# EAGLE library part MC899 (library dec-con)
RTL Dual Buffer
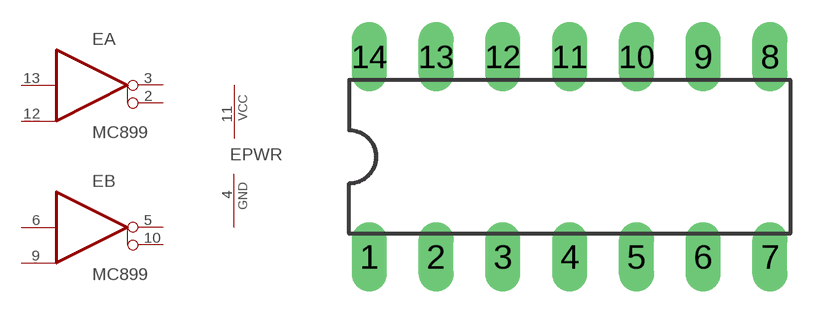
[diagram p48: symbol with the pads of DIL14; footprint DIL14]

Designator prefix E; gates PWR=PWRN A=MC899 B=MC899

## MC899P  [DIL14]
2  A:E  out
3  A:O  out
4  PWR:GND  pwr
5  B:O  out
6  B:I  in
9  B:R  pas
10  B:E  out
11  PWR:VCC  pwr
12  A:R  pas
13  A:I  in

## Footprint DIL14 (pad centres in mm)
Dual In Line Package
drill 0.813 long: 1 -7.62,-3.81; 2 -5.08,-3.81; 3 -2.54,-3.81; 4 0,-3.81; 5 2.54,-3.81; 6 5.08,-3.81; 7 7.62,-3.81; 8 7.62,3.81; 9 5.08,3.81; 10 2.54,3.81; 11 0,3.81; 12 -2.54,3.81; 13 -5.08,3.81; 14 -7.62,3.81